# EAGLE library part AY-3-8912 (library ay3891x)
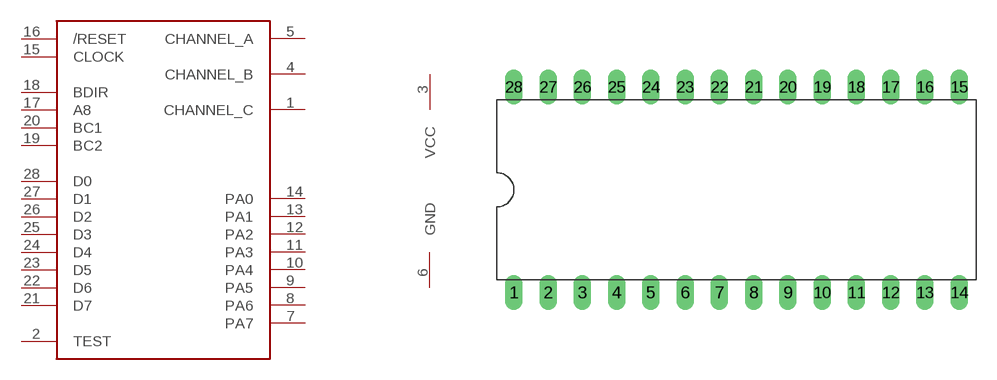
[diagram p1: symbol with the pads of DIL28; footprint DIL28]

Designator prefix -; gates G$1=AY-3-8912 G$2=PWR

## AY-3-8912  [DIL28]
1  G$1:CHANNEL_C  out
2  G$1:TEST  in
3  G$2:VCC  pwr
4  G$1:CHANNEL_B  out
5  G$1:CHANNEL_A  out
6  G$2:GND  pwr
7  G$1:PA7
8  G$1:PA6
9  G$1:PA5
10  G$1:PA4
11  G$1:PA3
12  G$1:PA2
13  G$1:PA1
14  G$1:PA0
15  G$1:CLOCK  in
16  G$1:/RESET  in
17  G$1:A8  in
18  G$1:BDIR  in
19  G$1:BC2  in
20  G$1:BC1  in
21  G$1:D7
22  G$1:D6
23  G$1:D5
24  G$1:D4
25  G$1:D3
26  G$1:D2
27  G$1:D1
28  G$1:D0

## Footprint DIL28 (pad centres in mm)
drill 0.8 long: 1 -16.51,-7.62; 2 -13.97,-7.62; 3 -11.43,-7.62; 4 -8.89,-7.62; 5 -6.35,-7.62; 6 -3.81,-7.62; 7 -1.27,-7.62; 8 1.27,-7.62; 9 3.81,-7.62; 10 6.35,-7.62; 11 8.89,-7.62; 12 11.43,-7.62; 13 13.97,-7.62; 14 16.51,-7.62; 15 16.51,7.62; 16 13.97,7.62; 17 11.43,7.62; 18 8.89,7.62; 19 6.35,7.62; 20 3.81,7.62; 21 1.27,7.62; 22 -1.27,7.62; 23 -3.81,7.62; 24 -6.35,7.62; 25 -8.89,7.62; 26 -11.43,7.62; 27 -13.97,7.62; 28 -16.51,7.62